# Altium footprint library newUA_6.PcbLib: 7 footprints
Each footprint in its own frame and in the unit in brackets; x right, y up, seen from the top. Pads: shape width x height; smd on the part's side, far side on the other; paste and mask are expansions set on the pad; w line width, h text height; cw(c..) or ccw(c..) is an arc to the next point about the centre after c.
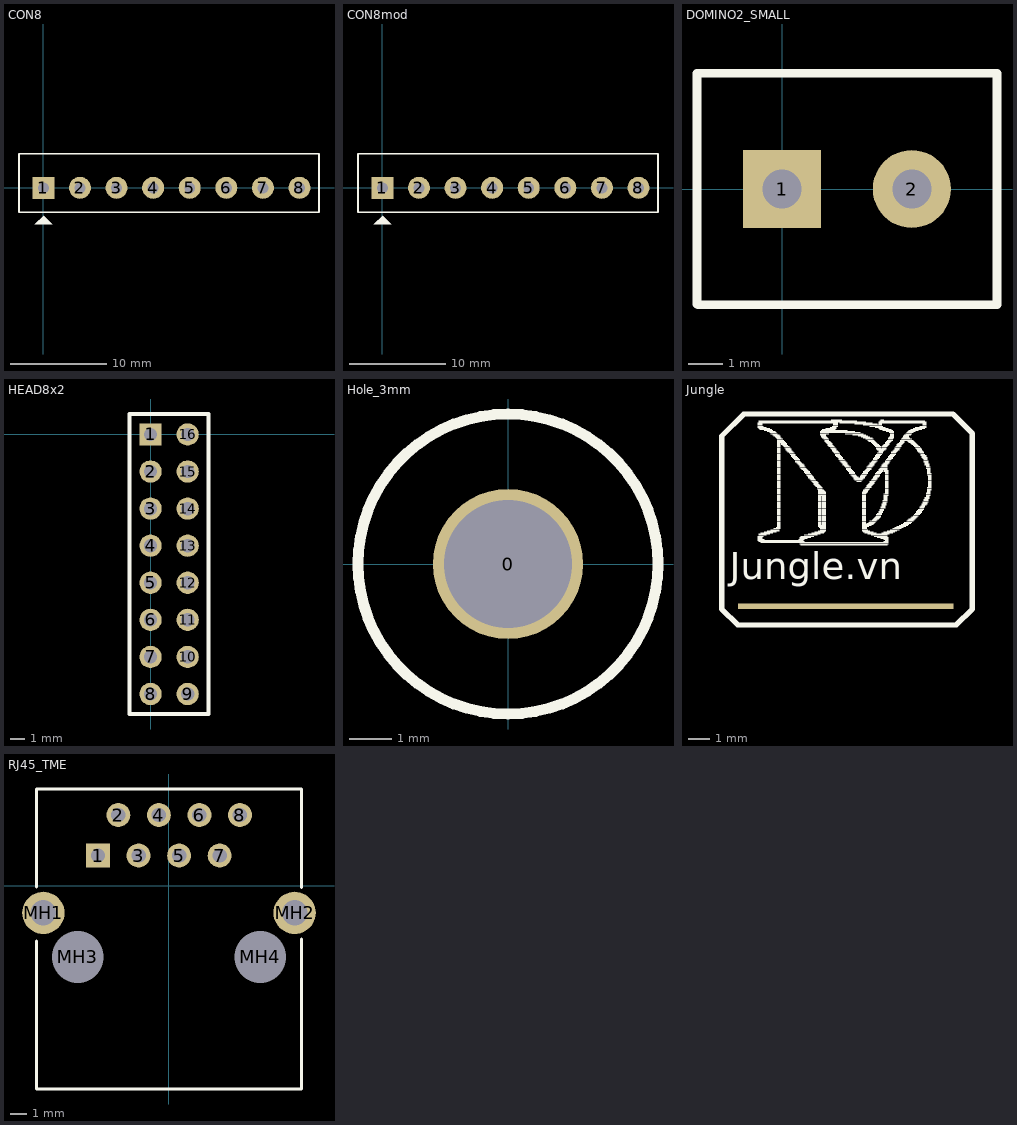
[diagram p0: the footprints below, top view; thin cyan lines are the x and y axes]

## CON8 [mm]
pads (8):
  rect 2.29x2.29 hole 1.14: 1(0,0)
  round 2.29 hole 1.14: 2(3.81,0) 3(7.62,0) 4(11.43,0) 5(15.24,0) 6(19.05,0) 7(22.86,0) 8(26.67,0)
Top Overlay:
  region: -0.902,-3.797 0.902,-3.797 0.013,-2.908 0.013,-2.883
  lines w0.178: -2.54,-2.54 -2.54,3.556 28.702,3.556 28.702,-2.54 20.32,-2.54 -2.54,-2.54

## CON8mod [mm]
pads (8):
  rect 2.29x2.29 hole 1.14: 1(0,0)
  round 2.29 hole 1.14: 2(3.81,0) 3(7.62,0) 4(11.43,0) 5(15.24,0) 6(19.05,0) 7(22.86,0) 8(26.67,0)
Top Overlay:
  region: -0.902,-3.797 0.902,-3.797 0.013,-2.908 0.013,-2.883
  lines w0.178: -2.54,-2.54 -2.54,3.556 28.702,3.556 28.702,-2.54 20.32,-2.54 -2.54,-2.54

## DOMINO2_SMALL [mm]
pads (2):
  rect 2.29x2.29 hole 1.14: 1(0,0)
  round 2.29 hole 1.14: 2(3.81,0)
Top Overlay:
  lines w0.254: -2.5,3.35 -2.5,-3.375 -2.475,-3.4 -1.15,-3.4 6.31,-3.4 6.31,3.375 ; -2.5,3.4 -1.525,3.4 5.2,3.4 6.31,3.4
3D body: height 7.25, standoff -3.25, extent -2.6,-2.992 6.41,4.008

## HEAD8x2 [mil]
pads (16):
  rect 60x60 hole 36: 1(0,0)
  round 60 hole 36: 2(0,-100) 3(0,-200) 4(0,-300) 5(0,-400) 6(0,-500) 7(0,-600) 8(0,-700) 9(100,-700) 10(100,-600) 11(100,-500) 12(100,-400) 13(100,-300) 14(100,-200) 15(100,-100) 16(100,0)
Top Overlay:
  lines w10: -57.09,-753.94 156.5,-753.94 156.5,55.12 -57.09,55.12 -57.09,-753.94

## Hole_3mm [mil]
pads (1):
  round 138 hole 118: 0(0,0)
Top Overlay:
  circle w10: c0,0 r138

## Jungle [mil]
pads (1):
  rect 400x10 smd: 1(-46125,-48505)
Top Overlay:
  drawing of 612 lines, arcs and shapes, not listed
  text "Jungle.vn" at -46340,-48455 h50

## RJ45_TME [mm] "no tranformer no LEDs"
pads (12):
  rect 1.5x1.5 hole 0.9: 1(-4.445,1.905)
  round 1.5 hole 0.9: 2(-3.175,4.445) 3(-1.905,1.905) 4(-0.635,4.445) 5(0.635,1.905) 6(1.905,4.445) 7(3.175,1.905) 8(4.445,4.445)
  round 2.65 hole 1.6: MH1(-7.875,-1.685) MH2(7.875,-1.685)
  round 2.95 hole 3.25 unplated: MH3(-5.715,-4.445) MH4(5.715,-4.445)
Bottom Layer:
  lines w0.3: -5.715,-4.445 -5.7,-4.46
Top Overlay:
  lines w0.2: -8.3,-3.45 -8.3,-12.725 8.3,-12.725 8.3,-3.345 ; -8.3,-0.075 -8.3,6.075 8.3,6.075 8.3,-0.1
3D body: height 15.17, standoff -3.52, extent -9.348,-15.748 9.652,6.096